# Altium integrated library RC0603JR-070RL.IntLib: 1 symbol
Pins are listed as number, name and electrical type; pins without a type are passive.

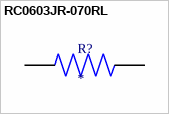
[diagram p0: symbol RC0603JR-070RL]

## RC0603JR-070RL
designator R?
Thick film general purpose; MP: RC0603JR-070RL; Availability: Unavailable; Package: None; Value: *; Price: None
footprint RESC1607X60N
pins: 1, 2